# Altium footprint library Hello.PcbLib: 234 footprints (part 4 of 15)
Each footprint in its own frame and in the unit in brackets; x right, y up, seen from the top. Pads: shape width x height; smd on the part's side, far side on the other; paste and mask are expansions set on the pad; w line width, h text height; cw(c..) or ccw(c..) is an arc to the next point about the centre after c.
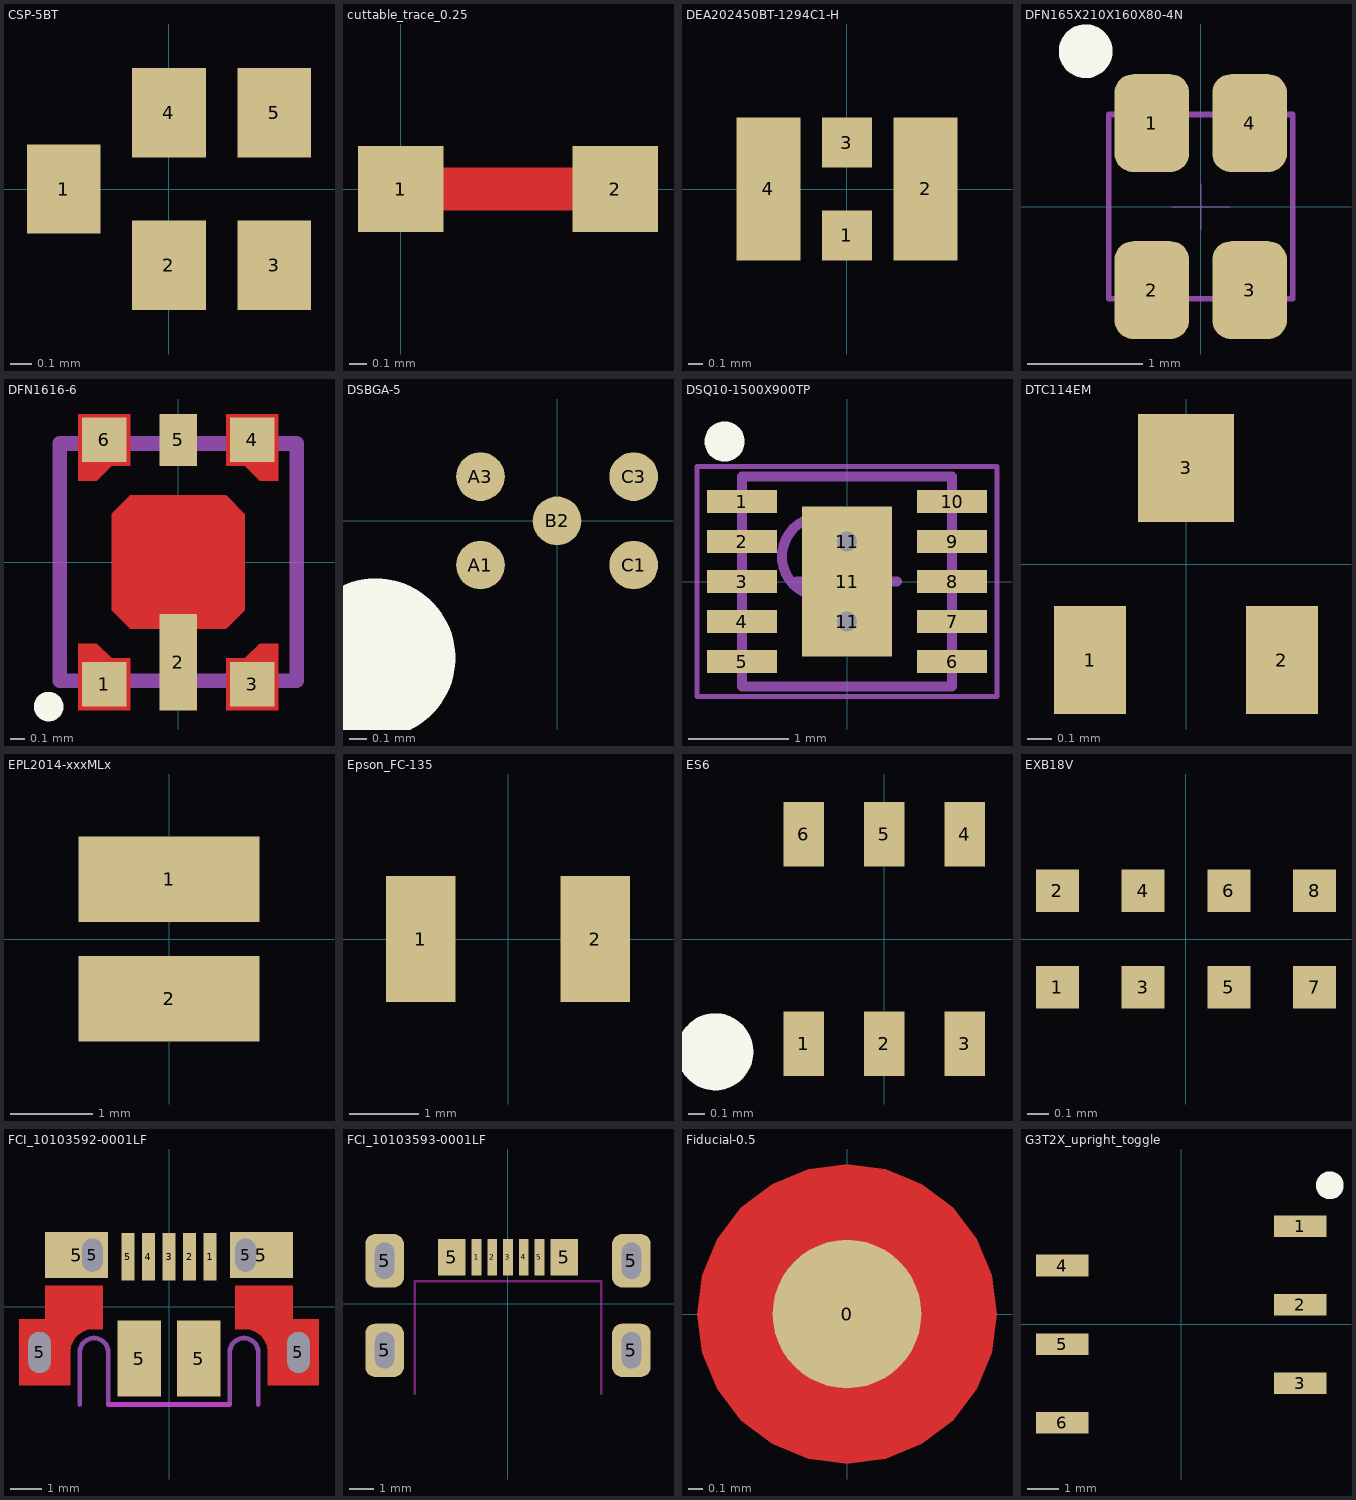
[diagram p3: the footprints below, top view; thin cyan lines are the x and y axes]

## CSP-5BT [mm] "Chip Scale Package, 5 pad, 1.40 x1.20 x 0.46mm"
height 0.46
pads (5):
  rect 0.35x0.425 smd mask+0.05: 1(-0.5,0) 2(0,-0.362) 3(0.5,-0.362) 4(0,0.363) 5(0.5,0.363)
3D body: height 0.5, standoff 0, extent -0.7,-0.6 0.7,0.6

## cuttable_trace_0.25 [mm] "0.25 mm cuttable trace for debugging"
pads (2):
  rect 0.5x0.5 smd paste-3 mask+0.102: 1(0,0) 2(1.25,0)
Top Layer:
  lines w0.25: 0,0 1.25,0

## DEA202450BT-1294C1-H [mm] "SAW filter 2.4 GHz WLAN"
height 0.8
pads (4):
  rect 0.35x0.35 smd paste-0.05: 1(0,-0.325) 3(0,0.325)
  rect 0.45x1 smd paste-0.05: 2(0.55,0) 4(-0.55,0)
3D body: height 0.8, standoff 0, extent -1,-0.65 1,0.65

## DFN165X210X160X80-4N [mm] "DFN, 4-Leads, body 0.210x0.160mm (max), Pitch 1.65x0.95mm"
height 0.8
pads (4):
  rrect50% 0.65x0.85 smd: 1(-0.425,0.725) 2(-0.425,-0.725) 3(0.425,-0.725) 4(0.425,0.725)
Top Overlay:
  circle w0.254: c-1,1.35 r0.106
Mechanical 13:
  lines w0.01: -0.25,0 0.25,0 ; 0,-0.2 0,0.2
  lines w0.05: -0.8,-0.8 -0.8,0.8 0.8,0.8 0.8,-0.8 -0.8,-0.8
3D body: height 2, standoff 0, extent -0.8,-0.8 0.8,0.8

## DFN1616-6 [mm] "6-Pin DFN 1.6 x 1.6 mm"
height 0.6
pads (6):
  rect 0.3x0.3 smd: 1(-0.5,-0.825) 3(0.5,-0.825) 4(0.5,0.825) 6(-0.5,0.825)
  rect 0.25x0.65 smd: 2(0,-0.675)
  rect 0.25x0.35 smd: 5(0,0.825)
Top Layer:
  region: -0.55,0.55 -0.675,0.55 -0.675,1 -0.325,1 -0.325,0.65 -0.45,0.65
  region: -0.675,-0.55 -0.55,-0.55 -0.45,-0.65 -0.325,-0.65 -0.325,-1 -0.675,-1
  region: 0.55,-0.55 0.675,-0.55 0.675,-1 0.325,-1 0.325,-0.65 0.45,-0.65
  region: 0.325,1 0.675,1 0.675,0.55 0.55,0.55 0.45,0.65 0.325,0.65
  region: -0.45,0.325 -0.325,0.45 0.325,0.45 0.45,0.325 0.45,-0.325 0.325,-0.45 -0.325,-0.45 -0.45,-0.325
Top Overlay:
  circle w0.1: c-0.875,-0.975 r0.05
Mechanical 13:
  lines w0.1: -0.8,-0.8 0.8,-0.8 0.8,0.8 -0.8,0.8 -0.8,-0.8
3D body: height 0.6, standoff 0.05, extent -0.8,-0.8 0.8,0.8

## DSBGA-5 [mm] "BGA 5 pin, 1x1.4mm"
height 0.6
pads (5):
  round 0.275 smd: A1(-0.433,-0.25) A3(-0.433,0.25) B2(0,0) C1(0.433,-0.25) C3(0.433,0.25)
Top Overlay:
  circle w0.7: c-1.025,-0.775 r0.1
3D body: height 0.6, standoff 0, extent -0.7,-0.55 0.7,0.55

## DSQ10-1500X900TP [mm] "SON, 10-Leads, Body 2x2mm, Pitch 0.4mm, Thermal Pad 1.5x0.9mm, TI Recommended"
height 0.8
pads (13):
  rect 0.7x0.23 smd paste-0.115 mask+0.05: 1(-1.05,0.8) 2(-1.05,0.4) 3(-1.05,0) 4(-1.05,-0.4) 5(-1.05,-0.8) 6(1.05,-0.8) 7(1.05,-0.4) 8(1.05,0) 9(1.05,0.4) 10(1.05,0.8)
  round 0.5 hole 0.2: 11(0,-0.4) 11(0,0.4)
  rect 0.9x1.5 smd paste-0.45 mask+0.05: 11(0,0)
Top Overlay:
  circle w0.2: c-1.225,1.4 r0.1
Top Paste:
  rectangle: 0.725,0.7 1.375,0.9
  rectangle: 0.725,0.3 1.375,0.5
  rectangle: 0.725,-0.1 1.375,0.1
  rectangle: 0.725,-0.5 1.375,-0.3
  rectangle: 0.725,-0.9 1.375,-0.7
  rectangle: -1.375,-0.9 -0.725,-0.7
  rectangle: -1.375,-0.5 -0.725,-0.3
  rectangle: -1.375,-0.1 -0.725,0.1
  rectangle: -1.375,0.7 -0.725,0.9
  rectangle: -1.375,0.3 -0.725,0.5
  rectangle: -0.35,-0.6 0.35,0.6
Mechanical 13:
  circle w0.1: c-0.25,0.25 r0.4
  lines w0.1: -1.05,-1.05 -1.05,1.05 1.05,1.05 1.05,-1.05 -1.05,-1.05
Mechanical 15:
  lines w0.05: -1.5,-1.15 -1.5,1.15 1.5,1.15 1.5,-1.15 -1.5,-1.15
  lines w0.1: -0.5,0 0.5,0 ; 0,-0.5 0,0.5
3D body: height 0.8, standoff 0, extent -1.05,-1.05 1.05,1.05

## DTC114EM [mm] "VTM3 footprint for the DTC114E"
pads (3):
  rect 0.3x0.45 smd: 1(-0.4,-0.4) 2(0.4,-0.4)
  rect 0.4x0.45 smd: 3(0,0.4)
3D body: height 0.5, standoff 0.1, extent -0.625,-0.437 0.625,0.388

## EPL2014-xxxMLx [mm] "Coilcraft  SMD shielded power inductor"
height 1.45
pads (2):
  rect 2.2x1.04 smd: 1(0,0.725) 2(0,-0.725)
3D body: height 1.45, standoff 0, extent -1,-1 1,1

## Epson_FC-135 [mm] "Epson Crystal FC-135 series"
height 1.6
pads (2):
  rect 1x1.8 smd: 1(-1.25,0) 2(1.25,0)
3D body: height 1.1, standoff 0, extent -1.6,-0.75 1.6,0.75

## ES6 [mm] "SOT-563 6-pin 1.6x1.6x0.55mm"
height 0.55
pads (6):
  rect 0.25x0.4 smd: 1(-0.5,-0.65) 2(0,-0.65) 3(0.5,-0.65) 4(0.5,0.65) 5(0,0.65) 6(-0.5,0.65)
Top Overlay:
  circle w0.254: c-1.05,-0.7 r0.112
3D body: height 0.55, standoff 0.12, extent -0.8,-0.6 0.8,0.6

## EXB18V [mm] "Panasonic Resistor Network, 4-element 1.4x0.6x0.35mm"
height 0.35
pads (8):
  rect 0.2x0.2 smd mask+0.07: 1(-0.6,-0.225) 2(-0.6,0.225) 3(-0.2,-0.225) 4(-0.2,0.225) 5(0.2,-0.225) 6(0.2,0.225) 7(0.6,-0.225) 8(0.6,0.225)
3D body: height 0.35, standoff 0, extent -0.7,-0.3 0.7,0.3

## FCI_10103592-0001LF [mm] "FCI micro USB connector, reverse mount"
height 2.5
pads (13):
  rect 0.4x1.5 smd: 1(1.3,1.587) 2(0.65,1.587) 3(0,1.587) 4(-0.65,1.587) 5(-1.3,1.587)
  oval 0.7x1.3 hole 0.7 slot 1.3 at 90 deg paste-0.05: 5(-4.1,-1.442) 5(4.1,-1.442)
  rect 2x1.46 smd: 5(-2.925,1.637) 5(2.925,1.637)
  oval 0.65x1.05 hole 0.65 slot 1.05 at 90 deg paste-0.05: 5(-2.425,1.637) 5(2.425,1.637)
  rect 1.375x2.4 smd: 5(-0.937,-1.637) 5(0.937,-1.637)
Top Layer:
  region: -4.75,-0.387 -4.75,-2.488 -3.125,-2.488 -3.131,-1.438 -3.106,-1.248 -3.033,-1.072 -2.917,-0.92 -2.766,-0.804 -2.589,-0.731 -2.4,-0.706 -2.4,-0.713 -2.1,-0.713 -2.1,0.663 -3.925,0.663 -3.925,-0.387
  region: 4.75,-0.387 4.75,-2.488 3.125,-2.488 3.131,-1.438 3.106,-1.248 3.033,-1.072 2.917,-0.92 2.766,-0.804 2.589,-0.731 2.4,-0.706 2.4,-0.713 2.1,-0.713 2.1,0.663 3.925,0.663 3.925,-0.387
Mechanical 1:
  lines w0.15: -2.825,-3.087 -2.825,-1.438 cw(c-2.375,-1.438) -2.375,-0.988 cw(c-2.375,-1.438) -1.925,-1.438 -1.925,-3.087 ; 1.925,-3.087 1.925,-1.438 cw(c2.375,-1.438) 2.375,-0.988 cw(c2.375,-1.438) 2.825,-1.438 2.825,-3.087
Mechanical 1 keep-out:
  lines w0.15: -1.925,-3.087 1.925,-3.087
3D body: height 2.5, standoff 0, extent -3.75,-2.5 3.75,2.5

## FCI_10103593-0001LF [mm] "FCI micro USB connector, board cut-out mount"
height 2.5
pads (11):
  rect 0.4x1.5 smd: 1(-1.3,1.925) 2(-0.65,1.925) 3(0,1.925) 4(0.65,1.925) 5(1.3,1.925)
  rrect50% 1.6x2.2 hole 0.8 slot 1.5 at 90 deg paste-0.05: 5(-5.1,-1.925) 5(-5.1,1.775) 5(5.1,-1.925) 5(5.1,1.775)
  rect 1.15x1.5 smd: 5(-2.325,1.925) 5(2.325,1.925)
Keep-Out Layer:
  lines w0.1: -3.85,-3.725 -3.85,0.925 3.85,0.925 3.85,-3.725
Multi-Layer:
  pour cut-out: -3.85,-3.725 3.85,-3.725 3.85,0.925 -3.85,0.925
3D body: height 1.8, standoff 0, extent -5.1,-3.725 5.1,2.275

## Fiducial-0.5 [mm] "Fiducial with 0.5mm Radius and 0.5mm soldermask"
pads (1):
  round 1 smd paste-5 mask+0.5: 0(0,0)
Top Layer:
  pour cut-out: 0,-1.009 -0.261,-0.974 -0.504,-0.873 -0.713,-0.713 -0.873,-0.504 -0.974,-0.261 -1.009,0 -0.974,0.261 -0.873,0.504 -0.713,0.713 -0.504,0.873 -0.261,0.974 0,1.009 0.261,0.974 0.504,0.873 0.713,0.713 0.873,0.504 0.974,0.261 1.009,0 0.974,-0.261 0.873,-0.504 0.713,-0.713 0.504,-0.873 0.261,-0.974

## G3T2X_upright_toggle [mm] "G3T2X toggle swithc, upright mount"
height 13
pads (6):
  rect 1.7x0.7 smd: 1(3.85,3.175) 2(3.85,0.635) 3(3.85,-1.905) 4(-3.85,1.905) 5(-3.85,-0.635) 6(-3.85,-3.175)
Top Overlay:
  circle w0.5: c4.8,4.5 r0.2
3D body: height 13, standoff 0.5, extent -3.7,-4 3.8,4